# Altium footprint library TOTUDU.PCBLIB: 34 footprints (part 3 of 3)
Each footprint in its own frame and in the unit in brackets; x right, y up, seen from the top. Pads: shape width x height; smd on the part's side, far side on the other; paste and mask are expansions set on the pad; w line width, h text height; cw(c..) or ccw(c..) is an arc to the next point about the centre after c.
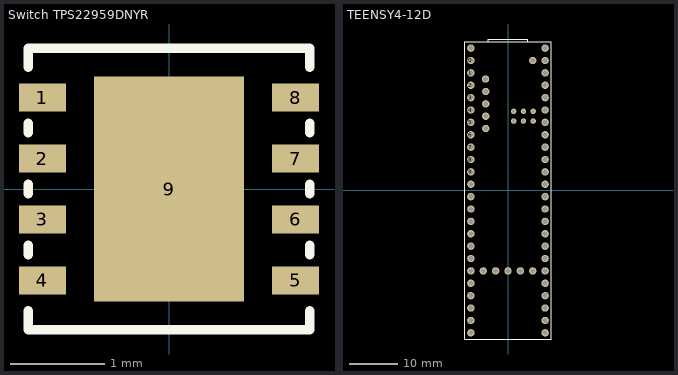
[diagram p2: the footprints below, top view; thin cyan lines are the x and y axes]

## Switch TPS22959DNYR [mm]
pads (9):
  rect 0.5x0.3 smd paste-0.102 mask+0.051: 1(-1.35,0.975) 2(-1.35,0.325) 3(-1.35,-0.325) 4(-1.35,-0.975) 5(1.35,-0.975) 6(1.35,-0.325) 7(1.35,0.325) 8(1.35,0.975)
  rect 1.6x2.4 smd paste-0.8 mask+0.051: 9(0,0)
Top Overlay:
  lines w0.1: -1.5,-1.3 -1.5,-1.5 1.5,-1.5 1.5,-1.3 ; -1.5,-0.7 -1.5,-0.6 ; -1.5,-0.05 -1.5,0.05 ; -1.5,0.6 -1.5,0.7 ; -1.5,1.3 -1.5,1.5 1.5,1.5 1.5,1.3 ; 1.5,-0.7 1.5,-0.6 ; 1.5,-0.05 1.5,0.05 ; 1.5,0.6 1.5,0.7
Top Paste:
  region: -0.735,0.1 0.735,0.1 0.735,1.17 -0.735,1.17
  region: 0.735,-0.1 -0.735,-0.1 -0.735,-1.17 0.735,-1.17
3D body "DNY0008A.stp": height 0.8, standoff 0, extent -1.5,-1.5 1.5,1.5

## TEENSY4-12D [mm]
pads (65):
  round 1.508 hole 1: 0(-7.62,26.67) 1(-7.62,24.13) 2(-7.62,21.59) 3(-7.62,19.05) 3.3V0(7.62,24.13) 3.3V1(-7.62,-6.35) 3.3V2(-2.54,-16.51) 4(-7.62,16.51) 5(-7.62,13.97) 5V0(7.62,29.21) 5V1(5.08,26.67) 5VUSB(-4.6,22.86) 6(-7.62,11.43) 7(-7.62,8.89) 8(-7.62,6.35) 9(-7.62,3.81) 10(-7.62,1.27) 11(-7.62,-1.27) 12(-7.62,-3.81) 13(7.62,-3.81) 14(7.62,-1.27) 15(7.62,1.27) 16(7.62,3.81) 17(7.62,6.35) 18(7.62,8.89) 19(7.62,11.43) 20(7.62,13.97) 21(7.62,16.51) 22(7.62,19.05) 23(7.62,21.59) 24(-7.62,-8.89) 25(-7.62,-11.43) 26(-7.62,-13.97) 27(-7.62,-16.51) 28(-7.62,-19.05) 29(-7.62,-21.59) 30(-7.62,-24.13) 31(-7.62,-26.67) 32(-7.62,-29.21) 33(7.62,-29.21) 34(7.62,-26.67) 35(7.62,-24.13) 36(7.62,-21.59) 37(7.62,-19.05) 38(7.62,-16.51) 39(7.62,-13.97) 40(7.62,-11.43) 41(7.62,-8.89) D+(-4.57,17.78) D-(-4.57,20.32) GND0(7.62,26.67) GND1(-7.62,29.21) GND2(7.62,-6.35) GND3(-4.57,15.24) GND4(-4.57,12.7) GND6(0,-16.51) ON/OFF(5.08,-16.51) PROGRAM(2.54,-16.51) VBAT(-5.08,-16.51)
  round 1.108 hole 0.6: ELED(3.17,16.24) GND5(3.17,14.24) R+(5.17,16.24) R-(5.17,14.24) T+(1.17,14.24) T-(1.17,16.24)
Top Overlay:
  lines w0.127: -4.03,30.48 -4.03,31.08 4.03,31.08 4.03,30.48 ; -8.89,-30.48 -8.89,30.48 8.89,30.48 8.89,-30.48 -8.89,-30.48